# EAGLE library part 5557-12 (library MKX-controller)
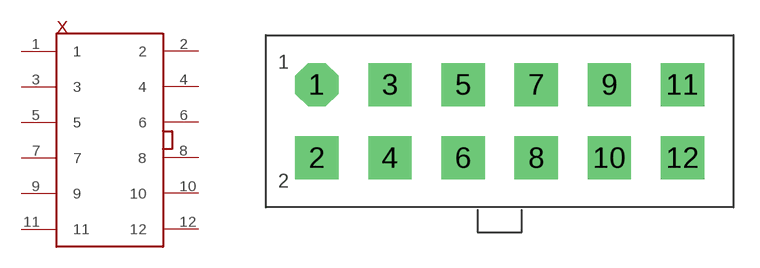
[diagram p1: symbol with the pads of 5557-12; footprint 5557-12]

Designator prefix X

## 5557-12  [5557-12]
1  1
2  2
3  3
4  4
5  5
6  6
7  7
8  8
9  9
10  10
11  11
12  12

## Footprint 5557-12 (pad centres in mm)
drill 1.651 octagon: 1 -10.477,2.095
drill 1.651 square: 2 -10.477,-2.095; 3 -6.287,2.095; 4 -6.287,-2.095; 5 -2.095,2.095; 6 -2.095,-2.095; 7 2.095,2.095; 8 2.095,-2.095; 9 6.287,2.095; 10 6.287,-2.095; 11 10.477,2.095; 12 10.477,-2.095